# EAGLE library part LTC2862A (library LT)
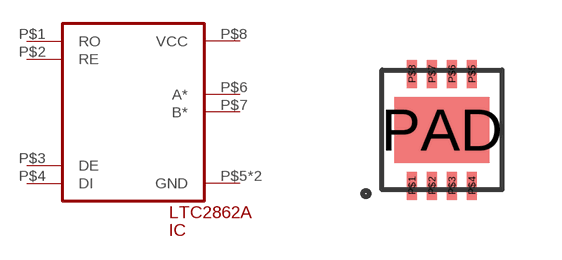
[diagram p0: symbol with the pads of DD_PACKGE_8; footprint DD_PACKGE_8]

Designator prefix IC

## LTC2862A  [DD_PACKGE_8]
P$1  RO
P$2  RE
P$3  DE
P$4  DI
P$5  GND
P$6  A*
P$7  B*
P$8  VCC
PAD  GND

## Footprint DD_PACKGE_8 (pad centres in mm)
smd 0.25 x 0.7: P$1 -0.75,-1.4; P$2 -0.25,-1.4; P$3 0.25,-1.4; P$4 0.75,-1.4; P$5 0.75,1.4; P$6 0.25,1.4; P$7 -0.25,1.4; P$8 -0.75,1.4
smd 2.38 x 1.65: PAD 0,0